# EAGLE library part ADAFRUITUSER_PINHD-1X8*? (library Wifi Gas Sensor)
PIN HEADER
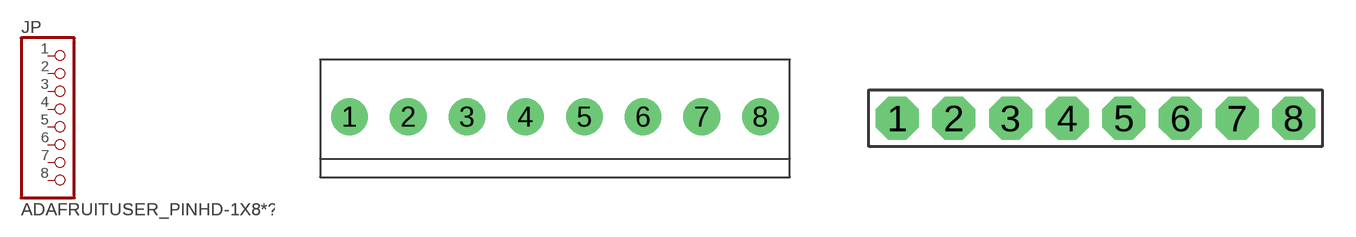
[diagram p6: symbol with the pads of ADAFRUITUSER_1X08-3.5MM; footprints ADAFRUITUSER_1X08-3.5MM, ADAFRUITUSER_1X08-BIG]

Designator prefix JP

## ADAFRUITUSER_PINHD-1X8-3.5MM  [ADAFRUITUSER_1X08-3.5MM]
1  1  pas
2  2  pas
3  3  pas
4  4  pas
5  5  pas
6  6  pas
7  7  pas
8  8  pas

## ADAFRUITUSER_PINHD-1X8BIG  [ADAFRUITUSER_1X08-BIG]
Pads as for ADAFRUITUSER_1X08-3.5MM

## ADAFRUITUSER_PINHD-1X8CLEANBIG  [ADAFRUITUSER_1X08-CLEANBIG]
Pads as for ADAFRUITUSER_1X08-3.5MM

## ADAFRUITUSER_PINHD-1X8LOCK  [ADAFRUITUSER_1X08-LOCK]
Pads as for ADAFRUITUSER_1X08-3.5MM

## Footprint ADAFRUITUSER_1X08-3.5MM (pad centres in mm)
drill 1 pad 2.184: 1 -12.25,0; 2 -8.75,0; 3 -5.25,0; 4 -1.75,0; 5 1.75,0; 6 5.25,0; 7 8.75,0; 8 12.25,0

## Footprint ADAFRUITUSER_1X08-BIG (pad centres in mm)
drill 0.7 pad 1.93 octagon: 1 -8.89,0; 2 -6.35,0; 3 -3.81,0; 4 -1.27,0; 5 1.27,0; 6 3.81,0; 7 6.35,0; 8 8.89,0

## Footprint ADAFRUITUSER_1X08-CLEANBIG (pad centres in mm)
drill 1.016 pad 1.778 octagon: 1 -8.89,0; 2 -6.35,0; 3 -3.81,0; 4 -1.27,0; 5 1.27,0; 6 3.81,0; 7 6.35,0; 8 8.89,0

## Footprint ADAFRUITUSER_1X08-LOCK (pad centres in mm)
drill 1.016 pad 1.778 octagon: 1 -8.89,0.127; 2 -6.35,-0.127; 3 -3.81,0.127; 4 -1.27,-0.127; 5 1.27,0.127; 6 3.81,-0.127; 7 6.35,0.127; 8 8.89,-0.127